# Altium footprint library Switches.PcbLib: 4 footprints
Each footprint in its own frame and in the unit in brackets; x right, y up, seen from the top. Pads: shape width x height; smd on the part's side, far side on the other; paste and mask are expansions set on the pad; w line width, h text height; cw(c..) or ccw(c..) is an arc to the next point about the centre after c.
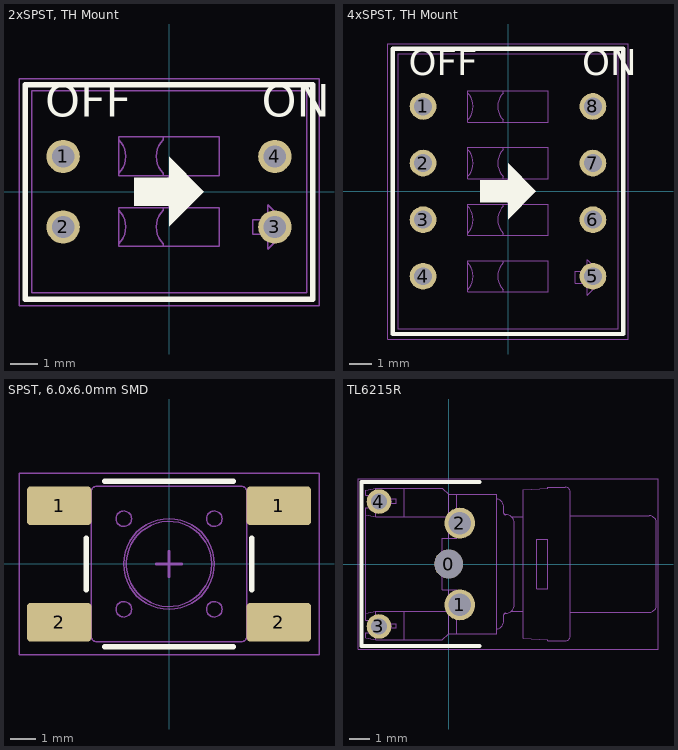
[diagram p0: the footprints below, top view; thin cyan lines are the x and y axes]

## 2xSPST, TH Mount [mm] "Dual SPST Switch, TH-Mount, 9.90x7.26mm Package, Pitch 2.54mm"
height 5.85
pads (4):
  round 1.2 hole 0.8: 1(-3.81,1.27) 2(-3.81,-1.27) 3(3.81,-1.27) 4(3.81,1.27)
Top Overlay:
  region: -1.25,-0.5 -1.25,0.5 0,0.5 0,1.25 1.25,0 0,-1.25 0,-0.5
  lines w0.2: -5.175,-3.875 5.175,-3.875 5.175,3.85 -5.175,3.85 -5.175,-3.875
  text "ON" at 3.334,2.295 h2
  text "OFF" at -4.453,2.295 h2
Mechanical 1:
  lines w0.05: -1.81,-1.872 ccw(c-2.41,-1.27) -1.81,-0.668 ; -1.81,0.668 ccw(c-2.41,1.27) -1.81,1.872 ; -0.21,-1.97 -0.21,-1.872 cw(c0.39,-1.27) -0.21,-0.668 -0.21,-0.57 ; -0.21,0.57 -0.21,0.668 cw(c0.39,1.27) -0.21,1.872 -0.21,1.97 ; -4.95,-3.63 -4.95,3.63 4.95,3.63 4.95,-3.63 -4.95,-3.63 ; -1.81,-1.97 -1.81,-0.57 1.81,-0.57 1.81,-1.97 -1.81,-1.97 ; -1.81,0.57 -1.81,1.97 1.81,1.97 1.81,0.57 -1.81,0.57 ; 3.017,-1.537 3.017,-1.003 3.55,-1.003 3.55,-0.47 4.35,-1.27 3.55,-2.07 3.55,-1.537 3.017,-1.537
Mechanical 15:
  lines w0.05: -5.4,-4.1 5.4,-4.1 5.4,4.075 -5.4,4.075 -5.4,-4.1
  lines w0.1: -0.5,0 0.5,0 ; 0,-0.5 0,0.5
3D body "SW_DIP_SPSTx02_Slide_9.78x7.26mm_W7.62mm_P2.54mm.step": height 6.75, standoff -3.2, extent -4.95,-3.63 4.95,3.63

## 4xSPST, TH Mount [mm] "Quad SPST Switch, TH-Mount, 9.90x12.34mm Package, Pitch 2.54mm"
height 5.85
pads (8):
  round 1.2 hole 0.8: 1(-3.81,3.81) 2(-3.81,1.27) 3(-3.81,-1.27) 4(-3.81,-3.81) 5(3.81,-3.81) 6(3.81,-1.27) 7(3.81,1.27) 8(3.81,3.81)
Top Overlay:
  region: -1.25,-0.5 -1.25,0.5 0,0.5 0,1.25 1.25,0 0,-1.25 0,-0.5
  lines w0.2: -5.175,-6.4 5.175,-6.4 5.175,6.4 -5.175,6.4 -5.175,-6.4
  text "ON" at 3.334,4.835 h2
  text "OFF" at -4.453,4.835 h2
Mechanical 1:
  lines w0.05: -4.95,6.17 -4.95,-6.17 4.95,-6.17 4.95,6.17 -4.95,6.17 ; -1.81,-4.412 ccw(c-2.41,-3.81) -1.81,-3.208 ; -1.81,-1.872 ccw(c-2.41,-1.27) -1.81,-0.668 ; -1.81,0.668 ccw(c-2.41,1.27) -1.81,1.872 ; -1.81,3.208 ccw(c-2.41,3.81) -1.81,4.412 ; -0.21,-4.51 -0.21,-4.412 cw(c0.39,-3.81) -0.21,-3.208 -0.21,-3.11 ; -0.21,-1.97 -0.21,-1.872 cw(c0.39,-1.27) -0.21,-0.668 -0.21,-0.57 ; -0.21,0.57 -0.21,0.668 cw(c0.39,1.27) -0.21,1.872 -0.21,1.97 ; -0.21,3.11 -0.21,3.208 cw(c0.39,3.81) -0.21,4.412 -0.21,4.51 ; -1.81,-4.51 -1.81,-3.11 1.81,-3.11 1.81,-4.51 -1.81,-4.51 ; -1.81,-1.97 -1.81,-0.57 1.81,-0.57 1.81,-1.97 -1.81,-1.97 ; -1.81,0.57 1.81,0.57 1.81,1.97 -1.81,1.97 -1.81,0.57 ; -1.81,3.11 -1.81,4.51 1.81,4.51 1.81,3.11 -1.81,3.11 ; 3.017,-4.127 3.017,-3.593 3.55,-3.593 3.55,-3.06 4.35,-3.86 3.55,-4.66 3.55,-4.127 3.017,-4.127
Mechanical 15:
  lines w0.05: -5.4,-6.625 5.4,-6.625 5.4,6.625 -5.4,6.625 -5.4,-6.625
  lines w0.1: -0.5,0 0.5,0 ; 0,-0.5 0,0.5
3D body "SW_DIP_SPSTx04_Slide_9.78x12.34mm_W7.62mm_P2.54mm.step": height 6.75, standoff -3.2, extent -4.95,-6.17 4.95,6.17

## SPST, 6.0x6.0mm SMD [mm] "SPST Tactile Switch, 6.0x6.0mm, SMD"
height 7
pads (4):
  rrect20% 2.5x1.5 smd: 1(-4.25,2.25) 1(4.25,2.25) 2(-4.25,-2.25) 2(4.25,-2.25)
Top Overlay:
  lines w0.2: -3.2,-1 -3.2,1 ; -2.5,-3.2 2.5,-3.2 ; -2.5,3.2 2.5,3.2 ; 3.2,-1 3.2,1
Mechanical 1:
  circle w0.05: c0,0 r1.65
  circle w0.05: c0,0 r1.75
  circle w0.05: c1.75,1.75 r0.3
  circle w0.05: c-1.75,-1.75 r0.3
  circle w0.05: c1.75,-1.75 r0.3
  circle w0.05: c-1.75,1.75 r0.3
  lines w0.05: -3.537,-2.6 -3.537,-1.9 ; -3.537,1.9 -3.537,2.6 ; -3.5,-2.6 -3.5,-1.9 ; -3.5,1.9 -3.5,2.6 ; -3.418,-2.6 -3.418,-1.9 ; -3.418,1.9 -3.418,2.6 ; -3,-2.6 -4.5,-2.6 -4.5,-1.9 -3,-1.9 ; -3,1.9 -4.5,1.9 -4.5,2.6 -3,2.6 ; 3,-2.6 4.5,-2.6 4.5,-1.9 3,-1.9 ; 3,1.9 4.5,1.9 4.5,2.6 3,2.6 ; 3.418,-2.6 3.418,-1.9 ; 3.418,1.9 3.418,2.6 ; 3.5,-2.6 3.5,-1.9 ; 3.5,1.9 3.5,2.6 ; 3.537,-2.6 3.537,-1.9 ; 3.537,1.9 3.537,2.6 ; -3,-2.8 ccw(c-2.8,-2.8) -2.8,-3 2.8,-3 ccw(c2.8,-2.8) 3,-2.8 3,2.8 ccw(c2.8,2.8) 2.8,3 -2.8,3 ccw(c-2.8,2.8) -3,2.8 -3,-2.8
Mechanical 15:
  lines w0.05: -5.8,-3.5 -5.8,3.5 5.8,3.5 5.8,-3.5 -5.8,-3.5
  lines w0.1: -0.5,0 0.5,0 ; 0,-0.5 0,0.5
3D body "SW_SPST_PTS645.step": height 4.3, standoff 0, extent -4.5,-3 4.5,3

## TL6215R [mm] "TL6215 Tactile Switch, Right Angle"
height 6.5
pads (5):
  round 1.4 hole 1.4: 0(0,0)
  round 1.5 hole 1.1: 1(0.55,-2) 2(0.55,2)
  round 1.2 hole 0.8: 3(-3.4,-3.05) 4(-3.4,3.05)
Top Overlay:
  lines w0.2: 1.5,-4 -4.25,-4 -4.25,4 1.5,4
Mechanical 1:
  drawing of 151 lines, arcs and shapes, not listed
Mechanical 15:
  lines w0.05: -4.425,-4.175 10.225,-4.175 10.225,4.175 -4.425,4.175 -4.425,-4.175
  lines w0.1: -0.5,0 0.5,0 ; 0,-0.5 0,0.5
3D body "TL6215R.STEP": height 7.2, standoff -2.95, extent -4.05,-3.846 10.15,3.846